# Altium schematic symbol library Pallette.SchLib: 37 symbols
Pins are listed as number, name and electrical type; pins without a type are passive.

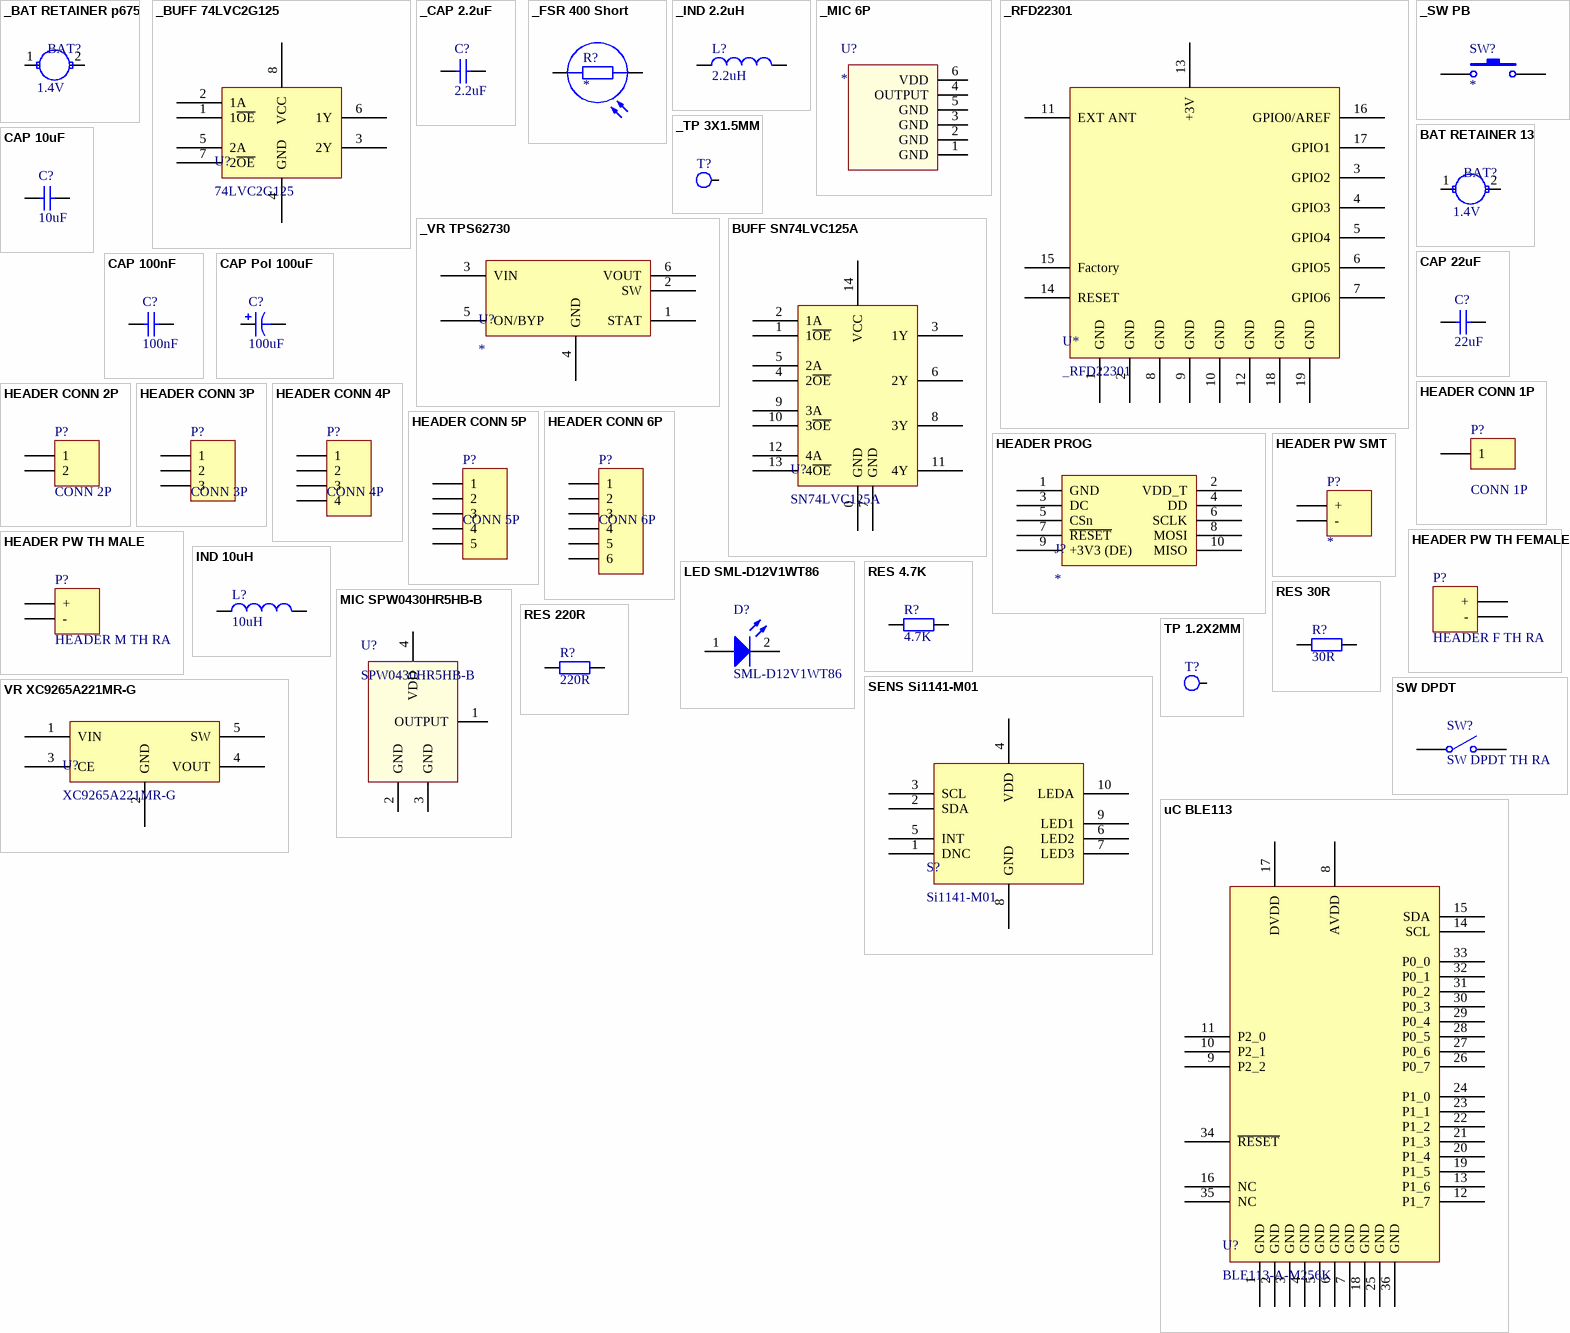
[diagram p0: symbols _BAT RETAINER p675 to VR XC9265A221MR-G]

## _BAT RETAINER p675
designator BAT?  value 1.4V  (hidden comment: *)
RETAINER COIN CELL SMD 11.6MM; Manufacturer: Keystone Electronics; Manufacturer Part Number: 3096; Digi-Key Part Number: 36-3096-ND
footprint BAT RETAINER p675 (Body 17.78x12.07mm)
pins: 1 +, 2 -

## _BUFF 74LVC2G125
designator U?, comment 74LVC2G125
IC BUS BUFF DVR TRI-ST DL 8VSSOP; Manufacturer: NXP Semiconductors; Manufacturer Part Number: 74LVC2G125DC,125; Digi-Key Part Number: 568-7675-1-ND
footprint VSSOP8 (Body 2.1x2.4mm)
pins: 1 1~{OE}, 2 1A, 3 2Y, 4 GND, 5 2A, 6 1Y, 7 2~{OE}, 8 VCC

## _CAP 2.2uF
designator C?, comment 2.2uF
CAP CER 2.2UF 6.3V X5R 0402; Manufacturer Part Number: 04026D225KAT2A; Manufacturer: AVX Corporation; Digi-Key Part Number: 478-7885-1-ND; Value: 2.2uF
footprint 0402 (Body 1.0x0.5mm, IPC High Density)
pins: 1, 2

## _FSR 400 Short
designator R?
FSR 400 SHORT TAIL WITH SOLDER TABS; Manufacturer: Interlink Electronics; Manufacturer Part Number: 34-00004; Digi-Key Part Number: 1027-1014-ND
footprint FSR 400 Short (5mm Circle x 20mm)
pins: 1, 2

## _IND 2.2uH
designator L?, comment 2.2uH
FIXED IND 2.2UH 800MA 120 MOHM; Manufacturer: TDK Corporation; Manufacturer Part Number: MLZ2012N2R2LT000; Digi-Key Part Number: 445-6758-1-ND
footprint 0805 (Body 2.0x1.25mm, IPC High Density)
pins: 1, 2

## _MIC 6P
designator U?
MIC MEMS ANALOG OMNI; Manufacturer: Texas Instruments; Manufacturer Part Number: SPH0642HT5H-1; Digi-Key Part Number: 423-1403-1-ND
footprint MIC-6P
pins: 1 GND, 2 GND, 3 GND, 4 OUTPUT, 5 GND, 6 VDD

## _RFD22301
designator U*
RFDuino
footprint RFD23301
pins: 1 GND, 2 GND, 3 GPIO2, 4 GPIO3, 5 GPIO4, 6 GPIO5, 7 GPIO6, 8 GND, 9 GND, 10 GND, 11 EXT ANT, 12 GND, 13 +3V, 14 RESET, 15 Factory, 16 GPIO0/AREF, 17 GPIO1, 18 GND, 19 GND

## _SW PB
designator SW?
Switch Button
footprint SW PB (Switch)
pins: 1, 2

## _TP 3X1.5MM
designator T?  (value not drawn)
Test point
footprint TP 2MM (Test point 2mm)
footprint TP 3X1.5MM
pins: 1

## _VR TPS62730
designator U?
IC DCDC CONV STP-DN SYNC LP 6SON; Manufacturer: Texas Instruments; Manufacturer Part Number: TPS62730DRYT; Digi-Key Part Number: 296-28820-1-ND
footprint 6-UFDFN (Body 1.5x1.0mm)
pins: 1 STAT, 2 SW, 3 VIN, 4 GND, 5 ON/BYP, 6 VOUT

## BAT RETAINER 13
designator BAT?, comment value 1.4V  (hidden comment: RETAINER COIN CELL 7.9MM)
RETAINER COIN CELL 7.9MM SMD; Manufacturer: Keystone Electronics; Manufacturer Part Number: 2988; Digi-Key Part Number: 36-2988-ND
footprint BAT RETAINER 13 (Body 13.36x12.07mm)
pins: 1 +, 2 -

## BUFF SN74LVC125A
designator U?, comment SN74LVC125A
IC BUS BUFF TRI-ST QD 14VQFN; Manufacturer: Texas Instruments; Manufacturer Part Number: SN74LVC125ARGYR; Digi-Key Part Number: 296-13961-1-ND
footprint VQFN14 (Body 3.65x3.65mm)
pins: 0 GND, 1 1~{OE}, 2 1A, 3 1Y, 4 2~{OE}, 5 2A, 6 2Y, 7 GND, 8 3Y, 9 3A, 10 3~{OE}, 11 4Y, 12 4A, 13 4~{OE}, 14 VCC

## CAP 10uF
designator C?, comment 10uF
CAP CER 10UF ±20% 10V X5R 0603; Manufacturer Part Number: GRM188R61A106MAALD; Manufacturer: Murata; Digi-Key Part Number: 490-12734-1-ND; Value: 10uF
footprint 0603 (Body 1.6x0.8mm, IPC High Density)
pins: 1, 2

## CAP 22uF
designator C?, comment 22uF
CAP CER 22UF 6.3V X5R 0603; Manufacturer Part Number: GRM188R60J226MEA0D; Manufacturer: Murata; Digi-Key Part Number: 490-7611-1-ND; Value: 22uF
footprint 0603 (Body 1.6x0.8mm, IPC High Density)
pins: 1, 2

## CAP 100nF
designator C?, comment 100nF
CAP CER 0.1UF 10V X5R 0402; Manufacturer: Murata; Manufacturer Part Number: GRM155R61A104KA01D; Digi-Key Part Number: 490-1318-1-ND; Value: 100nF
footprint 0402 (Body 1.0x0.5mm, IPC High Density)
pins: 1, 2

## CAP Pol 100uF
designator C?, comment 100uF
CAP TANT POLY 100UF 8V 1411; Manufacturer: Panasonic Electronic Components; Manufacturer Part Number: 8TPE100MAZB; Digi-Key Part Number: P16641CT-ND; Value: 100uF
footprint 1411 (Body 3.5x2.8mm, IPC High Density)
pins: 1, 2
1 alternate drawing of the same symbol

## HEADER CONN 1P
designator P?, comment CONN 1P  (no BOM)
Connection Port
footprint PORT CONN 1P (Body 2x0.95mm)
pins: 1

## HEADER CONN 2P
designator P?, comment CONN 2P  (no BOM)
Connection Port; LatestRevisionDate: 17-Jul-2002; LatestRevisionNote: Re-released for DXP Platform.; Publisher: Altium Limited
footprint PORT CONN 2P (Body 1.2x2mm)
pins: 1, 2

## HEADER CONN 3P
designator P?, comment CONN 3P  (no BOM)
Connection Port; LatestRevisionDate: 17-Jul-2002; LatestRevisionNote: Re-released for DXP Platform.; Publisher: Altium Limited
footprint PORT CONN 3P (Body 1.2x2mm)
pins: 1, 2, 3

## HEADER CONN 4P
designator P?, comment CONN 4P  (no BOM)
Connection Port; LatestRevisionDate: 17-Jul-2002; LatestRevisionNote: Re-released for DXP Platform.; Publisher: Altium Limited
footprint PORT CONN 4P (Body 1.2x2mm)
pins: 1, 2, 3, 4

## HEADER CONN 5P
designator P?, comment CONN 5P  (no BOM)
Connection Port
footprint PORT CONN 5P (Body 1.2x2mm)
pins: 1, 2, 3, 4, 5

## HEADER CONN 6P
designator P?, comment CONN 6P  (no BOM)
Connection Port; LatestRevisionDate: 17-Jul-2002; LatestRevisionNote: Re-released for DXP Platform.; Publisher: Altium Limited
footprint PORT CONN 6P (Body 1.2x2mm)
pins: 1, 2, 3, 4, 5, 6

## HEADER PROG
designator J?  (no BOM)
PADS PROGRAMMING
footprint TC2050-IDC-NL (Programming pads)
pins: 1 GND, 2 VDD_T, 3 DC, 4 DD, 5 CSn, 6 SCLK, 7 ~{RESET}, 8 MOSI, 9 +3V3 (DE), 10 MISO

## HEADER PW SMT
designator P?  (no BOM)
Connection Port; LatestRevisionDate: 17-Jul-2002; LatestRevisionNote: Re-released for DXP Platform.; Publisher: Altium Limited
footprint PORT PW SMT 2P (Body 1.2x2mm)
pins: 1 +, 2 -

## HEADER PW TH FEMALE
designator P?, comment HEADER F TH RA  (no BOM)
HEADER Female, 2 Position, 0.100", Through Hole, Right Angle, Gold; Manufacturer Part Number: PPPC021LGBN-RC; Manufacturer: Sullins Connector Solutions; Digi-Key Part Number: S5477-ND
footprint PORT PW TH 2P (Body 5.08x2.54mm)
pins: 1 +, 2 -

## HEADER PW TH MALE
designator P?, comment HEADER M TH RA  (no BOM)
HEADER Male, Unshrouded, 2 Position, 0.100", Through Hole, Right Angle, Gold; Manufacturer: 3M; Manufacturer Part Number: 961102-5604-AR; Digi-Key Part Number: 3M9467-ND
footprint PORT PW TH 2P (Body 5.08x2.54mm)
pins: 1 +, 2 -

## IND 10uH
designator L?, comment 10uH
FIXED IND 10UH 500MA 320 MOHM; Manufacturer: Abracon LLC; Manufacturer Part Number: AIML-0805HC-100M-T; Digi-Key Part Number: 535-12791-1-ND; Value: 10uH
footprint 0805 (Body 2.0x1.25mm, IPC High Density)
pins: 1, 2

## LED SML-D12V1WT86
designator D?, comment SML-D12V1WT86
LED Red 630nm 2.2V Diffused White Lens 0603; Manufacturer: Rohm Semiconductor; Digi-Key Part Number: SML-D12V1WT86CT-ND; Manufacturer Part Number: SML-D12V1WT86
footprint LED 0603 (Body 1.6x0.8mm)
pins: 1 A, 2 K

## MIC SPW0430HR5HB-B
designator U?, comment SPW0430HR5HB-B
MIC MEMS ANALOG OMNI; Manufacturer: Knowles; Digi-Key Part Number: 423-1215-1-ND; Manufacturer Part Number: SPW0430HR5HB-B
footprint MIC-4P
pins: 1 OUTPUT, 2 GND, 3 GND, 4 VDD

## RES 4.7K
designator R?, comment 4.7K
RES SMD 4.7K OHM 1% 1/16W 0402; Manufacturer: Yageo; Manufacturer Part Number: RC0402FR-074K7L; Digi-Key Part Number: 311-4.7KLRCT-ND
footprint 0402 (Body 1.0x0.5mm, IPC High Density)
pins: 1, 2

## RES 30R
designator R?, comment 30R
RES SMD 30 OHM 1% 1/16W 0402; Manufacturer: Yageo; Manufacturer Part Number: RC0402FR-0730RL; Digi-Key Part Number: 311-30LRCT-ND
footprint 0402 (Body 1.0x0.5mm, IPC High Density)
pins: 1, 2

## RES 220R
designator R?, comment 220R
RES SMD 220 OHM 1% 1/10W 0603; Manufacturer: Panasonic; Manufacturer Part Number: ERJ-3EKF2200V; Digi-Key Part Number: P220HCT-ND
footprint 0603 (Body 1.6x0.8mm, IPC High Density)
pins: 1, 2

## SENS Si1141-M01
designator S?, comment Si1141-M01
SENS IR PROXIMITY AMB LT 10QFN; Manufacturer: Silicon Labs; Manufacturer Part Number: SI1141-M01-GMR; Digi-Key Part Number: 336-3260-1-ND
footprint SI1141-M01 (Body 4.9x2.85mm)
pins: 1 DNC, 2 SDA, 3 SCL, 4 VDD, 5 INT, 6 LED2, 7 LED3, 8 GND, 9 LED1, 10 LEDA

## SW DPDT
designator SW?, comment SW DPDT TH RA
SW Slide Switch DPDT Through Hole, Right Angle; Manufacturer: C&K Components; Manufacturer Part Number: JS202011AQN; Digi-Key Part Number: 401-2000-ND
footprint SW DPDT TH RA (Body 9x5.6mm)
pins: 1 COMMON, 2 NO

## TP 1.2X2MM
designator T?  (value not drawn)  (no BOM)
TEST POINT
footprint TP 2MM (Test point 2mm)
footprint TP 1.2x2MM (Body 1.2x2mm)
pins: 1

## uC BLE113
designator U?, comment BLE113-A-M256K
MODULE BT 4.0 BLE113 OTA; Manufacturer: Silicon Labs; Manufacturer Part Number: BLE113-A-M256K; Digi-Key Part Number: 1446-1035-1-ND
footprint BLE113-A (Body 15.725x9.15mm)
pins: 1 GND, 2 GND, 3 GND, 4 GND, 5 GND, 6 GND, 7 GND, 8 AVDD, 9 P2_2, 10 P2_1, 11 P2_0, 12 P1_7, 13 P1_6, 14 SCL, 15 SDA, 16 NC, 17 DVDD, 18 GND, 19 P1_5, 20 P1_4, 21 P1_3, 22 P1_2, 23 P1_1, 24 P1_0, 25 GND, 26 P0_7, 27 P0_6, 28 P0_5, 29 P0_4, 30 P0_3, 31 P0_2, 32 P0_1, 33 P0_0, 34 ~{RESET}, 35 NC, 36 GND

## VR XC9265A221MR-G
designator U?, comment XC9265A221MR-G
IC REG BUCK 2.2V 0.2A SYNC SOT25; Manufacturer: Torex Semiconductor Ltd; Digi-Key Part Number: 893-1305-1-ND; Manufacturer Part Number: XC9265A221MR-G
footprint SOT-25 (Body 2.9x2.8mm)
pins: 1 VIN, 2 GND, 3 CE, 4 VOUT, 5 SW